# Altium footprint library PCB - LEADED - SOP - INTERSIL MSOP-8 M8.118.PCBLIB: 1 footprints
Each footprint in its own frame and in the unit in brackets; x right, y up, seen from the top. Pads: shape width x height; smd on the part's side, far side on the other; paste and mask are expansions set on the pad; w line width, h text height; cw(c..) or ccw(c..) is an arc to the next point about the centre after c.
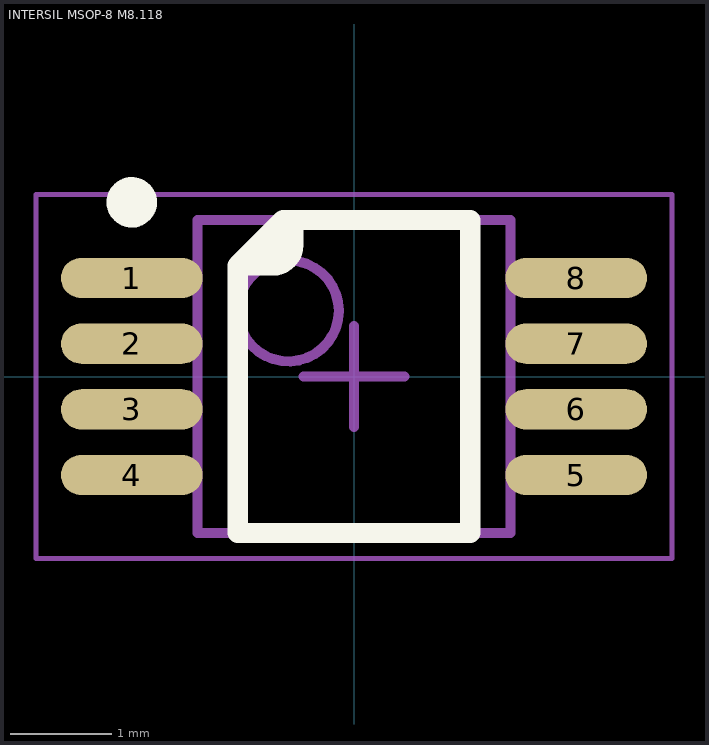
[diagram p0: the footprint, top view; thin cyan lines are the x and y axes]

## INTERSIL MSOP-8 M8.118 [mm] "MSOP, 8-Leads, Body 3.00x3.00mm, Pitch 0.65mm, IPC Medium Density"
height 0.95
pads (8):
  oval 1.4x0.4 smd: 1(-2.2,0.975) 2(-2.2,0.325) 3(-2.2,-0.325) 4(-2.2,-0.975) 5(2.2,-0.975) 6(2.2,-0.325) 7(2.2,0.325) 8(2.2,0.975)
Top Overlay:
  circle w0.25: c-2.2,1.725 r0.125
  region: -0.7,1.55 -1.1,1.15 -0.85,1.15 -0.8,1.1 -0.6,1.3 -0.6,1.55
  lines w0.2: -1.15,1.1 -0.7,1.55 ; -1.15,1.1 -1.15,-1.55 1.15,-1.55 1.15,1.55 -0.7,1.55 ; -1.15,1.1 -0.8,1.1 ccw(c-0.8,1.3) -0.6,1.3 -0.6,1.45 ccw(c-0.7,1.45) -0.7,1.55
Mechanical 13:
  circle w0.1: c-0.65,0.65 r0.5
  lines w0.1: -1.55,-1.55 -1.55,1.55 1.55,1.55 1.55,-1.55 -1.55,-1.55
Mechanical 15:
  lines w0.05: -3.15,-1.8 -3.15,1.8 3.15,1.8 3.15,-1.8 -3.15,-1.8
  lines w0.1: -0.5,0 0.5,0 ; 0,-0.5 0,0.5
3D body "MSOP-8.STEP": height 1.1, standoff 0, extent -2.46,-1.5 2.46,1.5